# Altium integrated library FPGA Generic.IntLib: 1651 symbols (part 10 of 20)
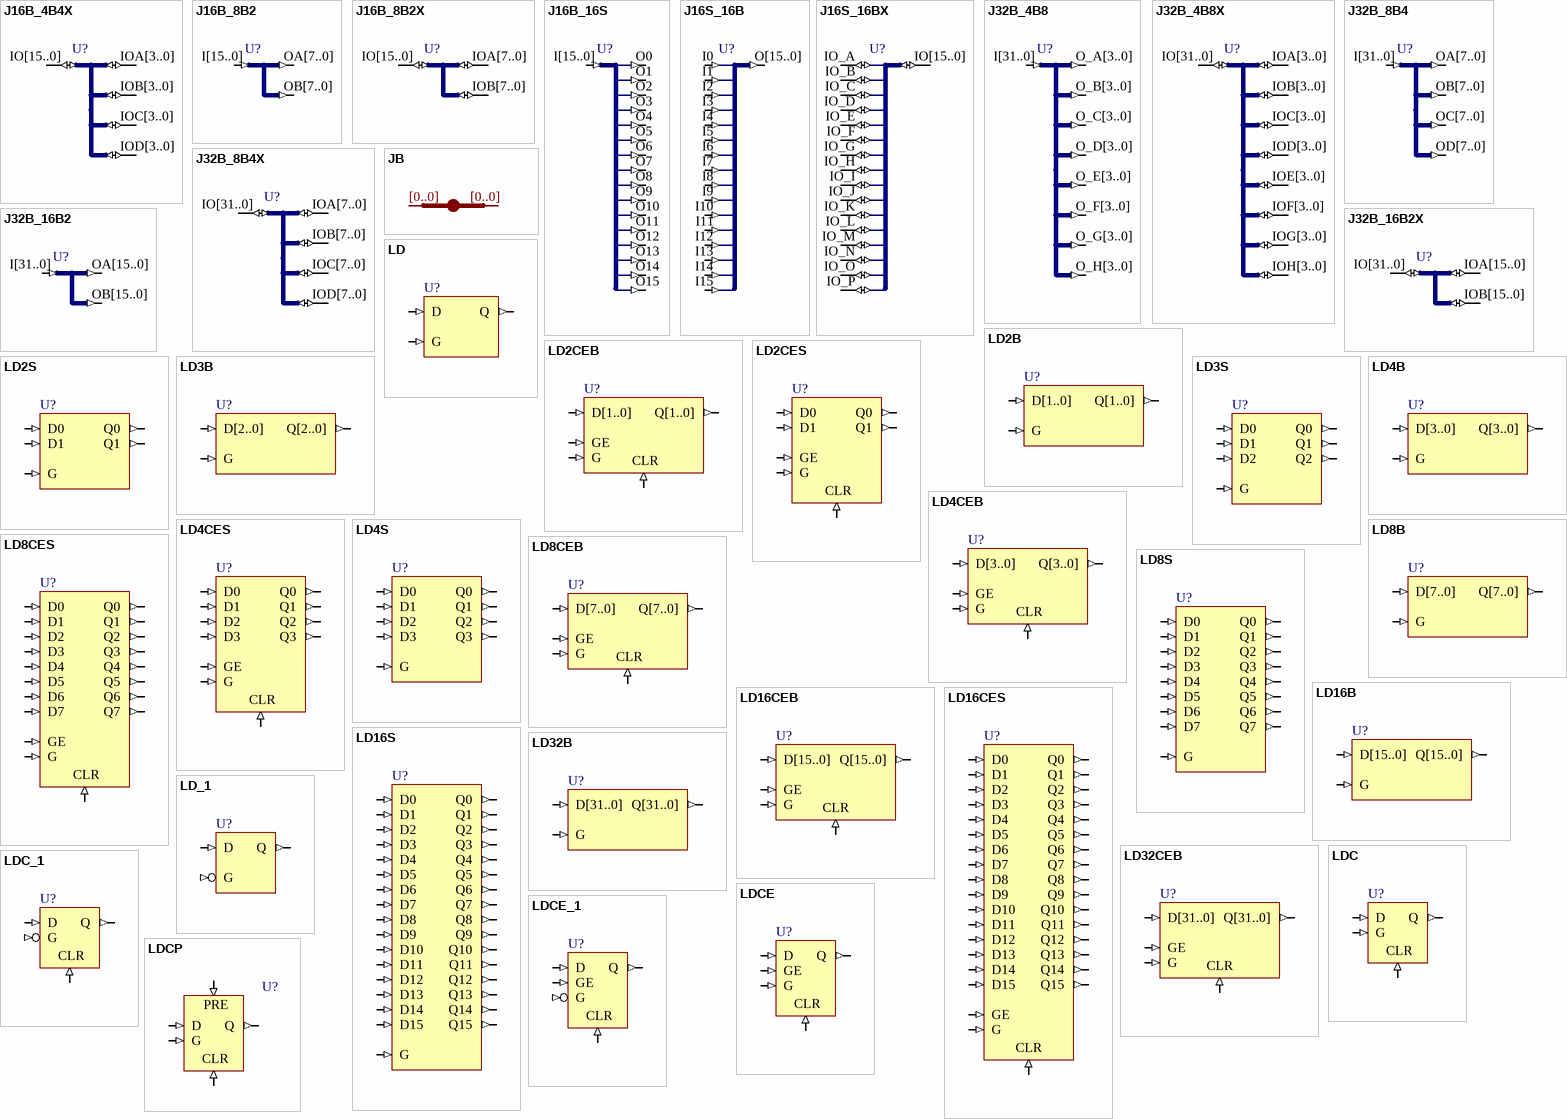
[diagram p52: symbols J16B_4B4X to LDCP]

## LD
designator U?
Transparent Data Latch; XilinxEquivalent: LD; ArchiveName: GENERIC; VHDLIB_SIM: GENERIC_LIB; Published: 29-Jan-2004; Publisher: Altium Limited; LastRevisionNo: 1.00.00; HelpURL: CR0118 FPGA Generic Library Guide.pdf#page=310; ComponentLink1URL: CR0135 FPGA Latch Resource Usage.pdf#page=2; ComponentLink1Description: Core &Resource Usage; FunctionalClass: Latch
pins: D (in), G (in), Q (out)

## LD2B
designator U?
2-Bit Transparent Data Latch, Bus Version; PortSize: 2; ArchiveName: GENERIC; VHDLIB_SIM: GENERIC_LIB; Published: 29-Jan-2004; Publisher: Altium Limited; LastRevisionNo: 1.00.00; HelpURL: CR0118 FPGA Generic Library Guide.pdf#page=310; ComponentLink1URL: CR0135 FPGA Latch Resource Usage.pdf#page=3; ComponentLink1Description: Core &Resource Usage; FunctionalClass: Latch; PortStyle: Bus Version
pins: D[1..0] (in), G (in), Q[1..0] (out)

## LD2CEB
designator U?
2-Bit Transparent Data Latch with Asynchronous Clear and Gate Enable, Bus Version; Enable: High; PortSize: 2; ArchiveName: GENERIC; VHDLIB_SIM: GENERIC_LIB; Published: 31-May-2004; Publisher: Altium Limited; LastRevisionNo: 1.00.00; HelpURL: CR0118 FPGA Generic Library Guide.pdf#page=315; ComponentLink1URL: CR0135 FPGA Latch Resource Usage.pdf#page=4; ComponentLink1Description: Core &Resource Usage; FunctionalClass: Latch; PortStyle: Bus Version
pins: CLR (in), D[1..0] (in), G (in), GE (in), Q[1..0] (out)

## LD2CES
designator U?
2-Bit Transparent Data Latch with Asynchronous Clear and Gate Enable, Single Pin Version; Enable: High; PortSize: 2; ArchiveName: GENERIC; VHDLIB_SIM: GENERIC_LIB; Published: 31-May-2004; Publisher: Altium Limited; LastRevisionNo: 1.00.00; HelpURL: CR0118 FPGA Generic Library Guide.pdf#page=315; ComponentLink1URL: CR0135 FPGA Latch Resource Usage.pdf#page=5; ComponentLink1Description: Core &Resource Usage; FunctionalClass: Latch; PortStyle: Single Pin Version
pins: CLR (in), D0 (in), D1 (in), G (in), GE (in), Q0 (out), Q1 (out)

## LD2S
designator U?
2-Bit Transparent Data Latch, Single Pin Version; PortSize: 2; ArchiveName: GENERIC; VHDLIB_SIM: GENERIC_LIB; Published: 29-Jan-2004; Publisher: Altium Limited; LastRevisionNo: 1.00.00; HelpURL: CR0118 FPGA Generic Library Guide.pdf#page=310; ComponentLink1URL: CR0135 FPGA Latch Resource Usage.pdf#page=6; ComponentLink1Description: Core &Resource Usage; FunctionalClass: Latch; PortStyle: Single Pin Version
pins: D0 (in), D1 (in), G (in), Q0 (out), Q1 (out)

## LD3B
designator U?
3-Bit Transparent Data Latch, Bus Version; PortSize: 3; ArchiveName: GENERIC; VHDLIB_SIM: GENERIC_LIB; Published: 29-Jan-2004; Publisher: Altium Limited; LastRevisionNo: 1.00.00; HelpURL: CR0118 FPGA Generic Library Guide.pdf#page=310; ComponentLink1URL: CR0135 FPGA Latch Resource Usage.pdf#page=7; ComponentLink1Description: Core &Resource Usage; FunctionalClass: Latch; PortStyle: Bus Version
pins: D[2..0] (in), G (in), Q[2..0] (out)

## LD3S
designator U?
3-Bit Transparent Data Latch, Single Pin Version; PortSize: 3; ArchiveName: GENERIC; VHDLIB_SIM: GENERIC_LIB; Published: 29-Jan-2004; Publisher: Altium Limited; LastRevisionNo: 1.00.00; HelpURL: CR0118 FPGA Generic Library Guide.pdf#page=310; ComponentLink1URL: CR0135 FPGA Latch Resource Usage.pdf#page=8; ComponentLink1Description: Core &Resource Usage; FunctionalClass: Latch; PortStyle: Single Pin Version
pins: D0 (in), D1 (in), D2 (in), G (in), Q0 (out), Q1 (out), Q2 (out)

## LD4B
designator U?
4-Bit Transparent Data Latch, Bus Version; PortSize: 4; ArchiveName: GENERIC; VHDLIB_SIM: GENERIC_LIB; Published: 29-Jan-2004; Publisher: Altium Limited; LastRevisionNo: 1.00.00; HelpURL: CR0118 FPGA Generic Library Guide.pdf#page=310; ComponentLink1URL: CR0135 FPGA Latch Resource Usage.pdf#page=9; ComponentLink1Description: Core &Resource Usage; FunctionalClass: Latch; PortStyle: Bus Version
pins: D[3..0] (in), G (in), Q[3..0] (out)

## LD4CEB
designator U?
4-Bit Transparent Data Latch with Asynchronous Clear and Gate Enable, Bus Version; Enable: High; PortSize: 4; ArchiveName: GENERIC; VHDLIB_SIM: GENERIC_LIB; Published: 29-Jan-2004; Publisher: Altium Limited; LastRevisionNo: 1.00.00; HelpURL: CR0118 FPGA Generic Library Guide.pdf#page=315; ComponentLink1URL: CR0135 FPGA Latch Resource Usage.pdf#page=10; ComponentLink1Description: Core &Resource Usage; FunctionalClass: Latch; PortStyle: Bus Version
pins: CLR (in), D[3..0] (in), G (in), GE (in), Q[3..0] (out)

## LD4CES
designator U?
4-Bit Transparent Data Latch with Asynchronous Clear and Gate Enable, Single Pin Version; XilinxEquivalent: LD4CE; Enable: High; PortSize: 4; ArchiveName: GENERIC; VHDLIB_SIM: GENERIC_LIB; Published: 29-Jan-2004; Publisher: Altium Limited; LastRevisionNo: 1.00.00; HelpURL: CR0118 FPGA Generic Library Guide.pdf#page=315; ComponentLink1URL: CR0135 FPGA Latch Resource Usage.pdf#page=11; ComponentLink1Description: Core &Resource Usage; FunctionalClass: Latch; PortStyle: Single Pin Version
pins: CLR (in), D0 (in), D1 (in), D2 (in), D3 (in), G (in), GE (in), Q0 (out), Q1 (out), Q2 (out), Q3 (out)

## LD4S
designator U?
4-Bit Transparent Data Latch, Single Pin Version; XilinxEquivalent: LD4; PortSize: 4; ArchiveName: GENERIC; VHDLIB_SIM: GENERIC_LIB; Published: 29-Jan-2004; Publisher: Altium Limited; LastRevisionNo: 1.00.00; HelpURL: CR0118 FPGA Generic Library Guide.pdf#page=310; ComponentLink1URL: CR0135 FPGA Latch Resource Usage.pdf#page=12; ComponentLink1Description: Core &Resource Usage; FunctionalClass: Latch; PortStyle: Single Pin Version
pins: D0 (in), D1 (in), D2 (in), D3 (in), G (in), Q0 (out), Q1 (out), Q2 (out), Q3 (out)

## LD8B
designator U?
8-Bit Transparent Data Latch, Bus Version; XilinxEquivalent: LD8; PortSize: 8; ArchiveName: GENERIC; VHDLIB_SIM: GENERIC_LIB; Published: 29-Jan-2004; Publisher: Altium Limited; LastRevisionNo: 1.00.00; HelpURL: CR0118 FPGA Generic Library Guide.pdf#page=310; ComponentLink1URL: CR0135 FPGA Latch Resource Usage.pdf#page=13; ComponentLink1Description: Core &Resource Usage; FunctionalClass: Latch; PortStyle: Bus Version
pins: D[7..0] (in), G (in), Q[7..0] (out)

## LD8CEB
designator U?
8-Bit Transparent Data Latch with Asynchronous Clear and Gate Enable, Bus Version; XilinxEquivalent: LD8CE; Enable: High; PortSize: 8; ArchiveName: GENERIC; VHDLIB_SIM: GENERIC_LIB; Published: 29-Jan-2004; Publisher: Altium Limited; LastRevisionNo: 1.00.00; HelpURL: CR0118 FPGA Generic Library Guide.pdf#page=315; ComponentLink1URL: CR0135 FPGA Latch Resource Usage.pdf#page=14; ComponentLink1Description: Core &Resource Usage; FunctionalClass: Latch; PortStyle: Bus Version
pins: CLR (in), D[7..0] (in), G (in), GE (in), Q[7..0] (out)

## LD8CES
designator U?
8-Bit Transparent Data Latch with Asynchronous Clear and Gate Enable, Single Pin Version; Enable: High; PortSize: 8; ArchiveName: GENERIC; VHDLIB_SIM: GENERIC_LIB; Published: 29-Jan-2004; Publisher: Altium Limited; LastRevisionNo: 1.00.00; HelpURL: CR0118 FPGA Generic Library Guide.pdf#page=315; ComponentLink1URL: CR0135 FPGA Latch Resource Usage.pdf#page=15; ComponentLink1Description: Core &Resource Usage; FunctionalClass: Latch; PortStyle: Single Pin Version
pins: CLR (in), D0 (in), D1 (in), D2 (in), D3 (in), D4 (in), D5 (in), D6 (in), D7 (in), G (in), GE (in), Q0 (out), Q1 (out), Q2 (out), Q3 (out), Q4 (out), Q5 (out), Q6 (out), Q7 (out)

## LD8S
designator U?
8-Bit Transparent Data Latch, Single Pin Version; PortSize: 8; ArchiveName: GENERIC; VHDLIB_SIM: GENERIC_LIB; Published: 29-Jan-2004; Publisher: Altium Limited; LastRevisionNo: 1.00.00; HelpURL: CR0118 FPGA Generic Library Guide.pdf#page=310; ComponentLink1URL: CR0135 FPGA Latch Resource Usage.pdf#page=16; ComponentLink1Description: Core &Resource Usage; FunctionalClass: Latch; PortStyle: Single Pin Version
pins: D0 (in), D1 (in), D2 (in), D3 (in), D4 (in), D5 (in), D6 (in), D7 (in), G (in), Q0 (out), Q1 (out), Q2 (out), Q3 (out), Q4 (out), Q5 (out), Q6 (out), Q7 (out)

## LD16B
designator U?
16-Bit Transparent Data Latch, Bus Version; XilinxEquivalent: LD16; PortSize: 16; ArchiveName: GENERIC; VHDLIB_SIM: GENERIC_LIB; Published: 29-Jan-2004; Publisher: Altium Limited; LastRevisionNo: 1.00.00; HelpURL: CR0118 FPGA Generic Library Guide.pdf#page=310; ComponentLink1URL: CR0135 FPGA Latch Resource Usage.pdf#page=17; ComponentLink1Description: Core &Resource Usage; FunctionalClass: Latch; PortStyle: Bus Version
pins: D[15..0] (in), G (in), Q[15..0] (out)

## LD16CEB
designator U?
16-Bit Transparent Data Latch with Asynchronous Clear and Gate Enable, Bus Version; XilinxEquivalent: LD16CE; Enable: High; PortSize: 16; ArchiveName: GENERIC; VHDLIB_SIM: GENERIC_LIB; Published: 29-Jan-2004; Publisher: Altium Limited; LastRevisionNo: 1.00.00; HelpURL: CR0118 FPGA Generic Library Guide.pdf#page=315; ComponentLink1URL: CR0135 FPGA Latch Resource Usage.pdf#page=18; ComponentLink1Description: Core &Resource Usage; FunctionalClass: Latch; PortStyle: Bus Version
pins: CLR (in), D[15..0] (in), G (in), GE (in), Q[15..0] (out)

## LD16CES
designator U?
16-Bit Transparent Data Latch with Asynchronous Clear and Gate Enable, Single Pin Version; Enable: High; PortSize: 16; ArchiveName: GENERIC; VHDLIB_SIM: GENERIC_LIB; Published: 29-Jan-2004; Publisher: Altium Limited; LastRevisionNo: 1.00.00; HelpURL: CR0118 FPGA Generic Library Guide.pdf#page=315; ComponentLink1URL: CR0135 FPGA Latch Resource Usage.pdf#page=19; ComponentLink1Description: Core &Resource Usage; FunctionalClass: Latch; PortStyle: Single Pin Version
pins: CLR (in), D0 (in), D1 (in), D2 (in), D3 (in), D4 (in), D5 (in), D6 (in), D7 (in), D8 (in), D9 (in), D10 (in), D11 (in), D12 (in), D13 (in), D14 (in), D15 (in), G (in), GE (in), Q0 (out), Q1 (out), Q2 (out), Q3 (out), Q4 (out), Q5 (out), Q6 (out), Q7 (out), Q8 (out), Q9 (out), Q10 (out), Q11 (out), Q12 (out), Q13 (out), Q14 (out), Q15 (out)

## LD16S
designator U?
16-Bit Transparent Data Latch, Single Pin Version; PortSize: 16; ArchiveName: GENERIC; VHDLIB_SIM: GENERIC_LIB; Published: 29-Jan-2004; Publisher: Altium Limited; LastRevisionNo: 1.00.00; HelpURL: CR0118 FPGA Generic Library Guide.pdf#page=310; ComponentLink1URL: CR0135 FPGA Latch Resource Usage.pdf#page=20; ComponentLink1Description: Core &Resource Usage; FunctionalClass: Latch; PortStyle: Single Pin Version
pins: D0 (in), D1 (in), D2 (in), D3 (in), D4 (in), D5 (in), D6 (in), D7 (in), D8 (in), D9 (in), D10 (in), D11 (in), D12 (in), D13 (in), D14 (in), D15 (in), G (in), Q0 (out), Q1 (out), Q2 (out), Q3 (out), Q4 (out), Q5 (out), Q6 (out), Q7 (out), Q8 (out), Q9 (out), Q10 (out), Q11 (out), Q12 (out), Q13 (out), Q14 (out), Q15 (out)

## LD32B
designator U?
32-Bit Transparent Data Latch, Bus Version; PortSize: 32; ArchiveName: GENERIC; VHDLIB_SIM: GENERIC_LIB; Published: 31-May-2004; Publisher: Altium Limited; LastRevisionNo: 1.00.00; HelpURL: CR0118 FPGA Generic Library Guide.pdf#page=310; ComponentLink1URL: CR0135 FPGA Latch Resource Usage.pdf#page=21; ComponentLink1Description: Core &Resource Usage; FunctionalClass: Latch; PortStyle: Bus Version
pins: D[31..0] (in), G (in), Q[31..0] (out)

## LD32CEB
designator U?
32-Bit Transparent Data Latch with Asynchronous Clear and Gate Enable, Bus Version; Enable: High; PortSize: 32; ArchiveName: GENERIC; VHDLIB_SIM: GENERIC_LIB; Published: 31-May-2004; Publisher: Altium Limited; LastRevisionNo: 1.00.00; HelpURL: CR0118 FPGA Generic Library Guide.pdf#page=315; ComponentLink1URL: CR0135 FPGA Latch Resource Usage.pdf#page=22; ComponentLink1Description: Core &Resource Usage; FunctionalClass: Latch; PortStyle: Bus Version
pins: CLR (in), D[31..0] (in), G (in), GE (in), Q[31..0] (out)

## LD_1
designator U?
Transparent Data Latch with Inverted Gate; XilinxEquivalent: LD_1; ArchiveName: GENERIC; VHDLIB_SIM: GENERIC_LIB; Published: 29-Jan-2004; Publisher: Altium Limited; LastRevisionNo: 1.00.00; HelpURL: CR0118 FPGA Generic Library Guide.pdf#page=312; ComponentLink1URL: CR0135 FPGA Latch Resource Usage.pdf#page=23; ComponentLink1Description: Core &Resource Usage; FunctionalClass: Latch; Gate: Inverted
pins: D (in), G (in), Q (out)

## LDC
designator U?
Transparent Data Latch with Asynchronous Clear; XilinxEquivalent: LDC; ArchiveName: GENERIC; VHDLIB_SIM: GENERIC_LIB; Published: 29-Jan-2004; Publisher: Altium Limited; LastRevisionNo: 1.00.00; HelpURL: CR0118 FPGA Generic Library Guide.pdf#page=313; ComponentLink1URL: CR0135 FPGA Latch Resource Usage.pdf#page=24; ComponentLink1Description: Core &Resource Usage; FunctionalClass: Latch
pins: CLR (in), D (in), G (in), Q (out)

## LDC_1
designator U?
Transparent Data Latch with Asynchronous Clear and Inverted Gate; XilinxEquivalent: LDC_1; ArchiveName: GENERIC; VHDLIB_SIM: GENERIC_LIB; Published: 29-Jan-2004; Publisher: Altium Limited; LastRevisionNo: 1.00.00; HelpURL: CR0118 FPGA Generic Library Guide.pdf#page=314; ComponentLink1URL: CR0135 FPGA Latch Resource Usage.pdf#page=25; ComponentLink1Description: Core &Resource Usage; FunctionalClass: Latch; Gate: Inverted
pins: CLR (in), D (in), G (in), Q (out)

## LDCE
designator U?
Transparent Data Latch with Asynchronous Clear and Gate Enable; XilinxEquivalent: LDCE; Enable: High; ArchiveName: GENERIC; VHDLIB_SIM: GENERIC_LIB; Published: 29-Jan-2004; Publisher: Altium Limited; LastRevisionNo: 1.00.00; HelpURL: CR0118 FPGA Generic Library Guide.pdf#page=315; ComponentLink1URL: CR0135 FPGA Latch Resource Usage.pdf#page=26; ComponentLink1Description: Core &Resource Usage; FunctionalClass: Latch
pins: CLR (in), D (in), G (in), GE (in), Q (out)

## LDCE_1
designator U?
Transparent Data Latch with Asynchronous Clear, Gate Enable,  and Inverted Gate; XilinxEquivalent: LDCE_1; Enable: High; ArchiveName: GENERIC; VHDLIB_SIM: GENERIC_LIB; Published: 29-Jan-2004; Publisher: Altium Limited; LastRevisionNo: 1.00.00; HelpURL: CR0118 FPGA Generic Library Guide.pdf#page=317; ComponentLink1URL: CR0135 FPGA Latch Resource Usage.pdf#page=27; ComponentLink1Description: Core &Resource Usage; FunctionalClass: Latch; Gate: Inverted
pins: CLR (in), D (in), G (in), GE (in), Q (out)

## LDCP
designator U?
Transparent Data Latch with Asynchronous Clear and Preset; XilinxEquivalent: LDCP; ArchiveName: GENERIC; VHDLIB_SIM: GENERIC_LIB; Published: 29-Jan-2004; Publisher: Altium Limited; LastRevisionNo: 1.00.00; HelpURL: CR0118 FPGA Generic Library Guide.pdf#page=318; ComponentLink1URL: CR0135 FPGA Latch Resource Usage.pdf#page=28; ComponentLink1Description: Core &Resource Usage; FunctionalClass: Latch
pins: CLR (in), D (in), G (in), PRE (in), Q (out)

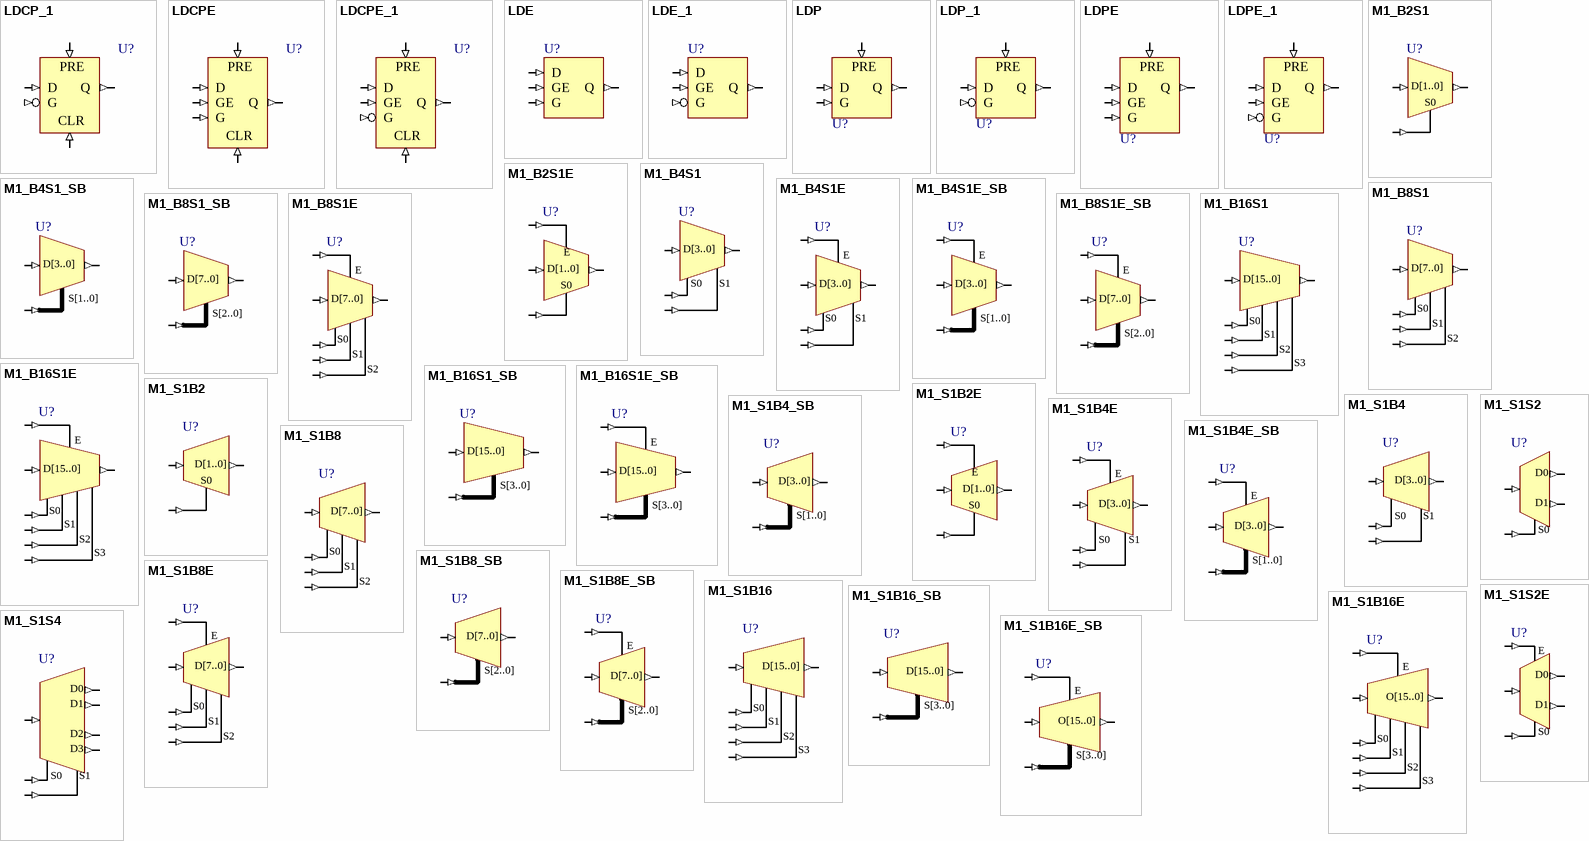
[diagram p20: symbols LDCP_1 to M1_S1S4]

## LDCP_1
designator U?
Transparent Data Latch with Asynchronous Clear and Preset and Inverted Gate; XilinxEquivalent: LDCP_1; ArchiveName: GENERIC; VHDLIB_SIM: GENERIC_LIB; Published: 29-Jan-2004; Publisher: Altium Limited; LastRevisionNo: 1.00.00; HelpURL: CR0118 FPGA Generic Library Guide.pdf#page=319; ComponentLink1URL: CR0135 FPGA Latch Resource Usage.pdf#page=29; ComponentLink1Description: Core &Resource Usage; FunctionalClass: Latch; Gate: Inverted
pins: CLR (in), D (in), G (in), PRE (in), Q (out)

## LDCPE
designator U?
Transparent Data Latch with Asynchronous Clear and Preset and Gate Enable; XilinxEquivalent: LDCPE; Enable: High; ArchiveName: GENERIC; VHDLIB_SIM: GENERIC_LIB; Published: 29-Jan-2004; Publisher: Altium Limited; LastRevisionNo: 1.00.00; HelpURL: CR0118 FPGA Generic Library Guide.pdf#page=320; ComponentLink1URL: CR0135 FPGA Latch Resource Usage.pdf#page=30; ComponentLink1Description: Core &Resource Usage; FunctionalClass: Latch
pins: CLR (in), D (in), G (in), GE (in), PRE (in), Q (out)

## LDCPE_1
designator U?
Transparent Data Latch with Asynchronous Clear and Preset, Gate Enable, and Inverted Gate; XilinxEquivalent: LDCPE_1; Enable: High; ArchiveName: GENERIC; VHDLIB_SIM: GENERIC_LIB; Published: 29-Jan-2004; Publisher: Altium Limited; LastRevisionNo: 1.00.00; HelpURL: CR0118 FPGA Generic Library Guide.pdf#page=321; ComponentLink1URL: CR0135 FPGA Latch Resource Usage.pdf#page=31; ComponentLink1Description: Core &Resource Usage; FunctionalClass: Latch; Gate: Inverted
pins: CLR (in), D (in), G (in), GE (in), PRE (in), Q (out)

## LDE
designator U?
Transparent Data Latch with Gate Enable; XilinxEquivalent: LDE; Enable: High; ArchiveName: GENERIC; VHDLIB_SIM: GENERIC_LIB; Published: 29-Jan-2004; Publisher: Altium Limited; LastRevisionNo: 1.00.00; HelpURL: CR0118 FPGA Generic Library Guide.pdf#page=322; ComponentLink1URL: CR0135 FPGA Latch Resource Usage.pdf#page=32; ComponentLink1Description: Core &Resource Usage; FunctionalClass: Latch
pins: D (in), G (in), GE (in), Q (out)

## LDE_1
designator U?
Transparent Data Latch with Gate Enable and Inverted Gate; XilinxEquivalent: LDE_1; Enable: High; ArchiveName: GENERIC; VHDLIB_SIM: GENERIC_LIB; Published: 29-Jan-2004; Publisher: Altium Limited; LastRevisionNo: 1.00.00; HelpURL: CR0118 FPGA Generic Library Guide.pdf#page=323; ComponentLink1URL: CR0135 FPGA Latch Resource Usage.pdf#page=33; ComponentLink1Description: Core &Resource Usage; FunctionalClass: Latch; Gate: Inverted
pins: D (in), G (in), GE (in), Q (out)

## LDP
designator U?
Transparent Data Latch with Asynchronous Preset; XilinxEquivalent: LDP; ArchiveName: GENERIC; VHDLIB_SIM: GENERIC_LIB; Published: 29-Jan-2004; Publisher: Altium Limited; LastRevisionNo: 1.00.00; HelpURL: CR0118 FPGA Generic Library Guide.pdf#page=324; ComponentLink1URL: CR0135 FPGA Latch Resource Usage.pdf#page=34; ComponentLink1Description: Core &Resource Usage; FunctionalClass: Latch
pins: D (in), G (in), PRE (in), Q (out)

## LDP_1
designator U?
Transparent Data Latch with Asynchronous Preset and Inverted Gate; XilinxEquivalent: LDP_1; ArchiveName: GENERIC; VHDLIB_SIM: GENERIC_LIB; Published: 29-Jan-2004; Publisher: Altium Limited; LastRevisionNo: 1.00.00; HelpURL: CR0118 FPGA Generic Library Guide.pdf#page=325; ComponentLink1URL: CR0135 FPGA Latch Resource Usage.pdf#page=35; ComponentLink1Description: Core &Resource Usage; FunctionalClass: Latch; Gate: Inverted
pins: D (in), G (in), PRE (in), Q (out)

## LDPE
designator U?
Transparent Data Latch with Asynchronous Preset and Gate Enable; XilinxEquivalent: LDPE; Enable: High; ArchiveName: GENERIC; VHDLIB_SIM: GENERIC_LIB; Published: 29-Jan-2004; Publisher: Altium Limited; LastRevisionNo: 1.00.00; HelpURL: CR0118 FPGA Generic Library Guide.pdf#page=326; ComponentLink1URL: CR0135 FPGA Latch Resource Usage.pdf#page=36; ComponentLink1Description: Core &Resource Usage; FunctionalClass: Latch
pins: D (in), G (in), GE (in), PRE (in), Q (out)

## LDPE_1
designator U?
Transparent Data Latch with Asynchronous Preset, Gate Enable, and Inverted Gate; XilinxEquivalent: LDPE_1; Enable: High; ArchiveName: GENERIC; VHDLIB_SIM: GENERIC_LIB; Published: 29-Jan-2004; Publisher: Altium Limited; LastRevisionNo: 1.00.00; HelpURL: CR0118 FPGA Generic Library Guide.pdf#page=327; ComponentLink1URL: CR0135 FPGA Latch Resource Usage.pdf#page=37; ComponentLink1Description: Core &Resource Usage; FunctionalClass: Latch; Gate: Inverted
pins: D (in), G (in), GE (in), PRE (in), Q (out)

## M1_B2S1
designator U?
1x2-Bit Bus to 1x1-Single Wire Multiplexer; SubClass: BnS1; PortSize: 1; PortStyle: Bus Version; ArchiveName: GENERIC; VHDLIB_SIM: GENERIC_LIB; Published: 29-Jan-2004; Publisher: Altium Limited; LastRevisionNo: 1.00.00; HelpURL: CR0118 FPGA Generic Library Guide.pdf#page=364; ComponentLink1URL: CR0137 FPGA Multiplexer Resource Usage.pdf#page=8; ComponentLink1Description: Core &Resource Usage; FunctionalClass: Multiplexer
pins: D[1..0] (in), O (out), S0 (in)

## M1_B2S1E
designator U?
1x2-Bit Bus to 1x1-Single Wire Multiplexer With Enable; SubClass: BnS1; Enable: High; PortSize: 1; PortStyle: Bus Version; ArchiveName: GENERIC; VHDLIB_SIM: GENERIC_LIB; Published: 29-Jan-2004; Publisher: Altium Limited; LastRevisionNo: 1.00.00; HelpURL: CR0118 FPGA Generic Library Guide.pdf#page=366; ComponentLink1URL: CR0137 FPGA Multiplexer Resource Usage.pdf#page=9; ComponentLink1Description: Core &Resource Usage; FunctionalClass: Multiplexer
pins: D[1..0] (in), E (in), O (out), S0 (in)

## M1_B4S1
designator U?
1x4-Bit Bus to 1x1-Single Wire Multiplexer; SubClass: BnS1; PortSize: 1; PortStyle: Bus Version; ArchiveName: GENERIC; VHDLIB_SIM: GENERIC_LIB; Published: 29-Jan-2004; Publisher: Altium Limited; LastRevisionNo: 1.00.00; HelpURL: CR0118 FPGA Generic Library Guide.pdf#page=370; ComponentLink1URL: CR0137 FPGA Multiplexer Resource Usage.pdf#page=10; ComponentLink1Description: Core &Resource Usage; FunctionalClass: Multiplexer
pins: D[3..0] (in), O (out), S0 (in), S1 (in)

## M1_B4S1_SB
designator U?
1x4-Bit Bus to 1x1-Single Wire Multiplexer With Bus Version Select; SubClass: BnS1; BusBusSelect: True; PortSize: 1; ArchiveName: GENERIC; VHDLIB_SIM: GENERIC_LIB; Published: 31-May-2004; Publisher: Altium Limited; LastRevisionNo: 1.00.00; HelpURL: CR0118 FPGA Generic Library Guide.pdf#page=370; ComponentLink1URL: CR0137 FPGA Multiplexer Resource Usage.pdf#page=11; ComponentLink1Description: Core &Resource Usage; FunctionalClass: Multiplexer; PortStyle: Bus Version
pins: D[3..0] (in), O (out), S[1..0] (in)

## M1_B4S1E
designator U?
1x4-Bit Bus to 1x1-Single Wire Multiplexer With Enable; SubClass: BnS1; Enable: High; PortSize: 1; PortStyle: Bus Version; ArchiveName: GENERIC; VHDLIB_SIM: GENERIC_LIB; Published: 29-Jan-2004; Publisher: Altium Limited; LastRevisionNo: 1.00.00; HelpURL: CR0118 FPGA Generic Library Guide.pdf#page=374; ComponentLink1URL: CR0137 FPGA Multiplexer Resource Usage.pdf#page=12; ComponentLink1Description: Core &Resource Usage; FunctionalClass: Multiplexer
pins: D[3..0] (in), E (in), O (out), S0 (in), S1 (in)

## M1_B4S1E_SB
designator U?
1x4-Bit Bus to 1x1-Single Wire Multiplexer With Enable With Bus Version Select; SubClass: BnS1; Enable: High; BusBusSelect: True; PortSize: 1; ArchiveName: GENERIC; VHDLIB_SIM: GENERIC_LIB; Published: 31-May-2004; Publisher: Altium Limited; LastRevisionNo: 1.00.00; HelpURL: CR0118 FPGA Generic Library Guide.pdf#page=374; ComponentLink1URL: CR0137 FPGA Multiplexer Resource Usage.pdf#page=13; ComponentLink1Description: Core &Resource Usage; FunctionalClass: Multiplexer; PortStyle: Bus Version
pins: D[3..0] (in), E (in), O (out), S[1..0] (in)

## M1_B8S1
designator U?
1x8-Bit Bus to 1x1-Single Wire Multiplexer; SubClass: BnS1; PortSize: 1; PortStyle: Bus Version; ArchiveName: GENERIC; VHDLIB_SIM: GENERIC_LIB; Published: 29-Jan-2004; Publisher: Altium Limited; LastRevisionNo: 1.00.00; HelpURL: CR0118 FPGA Generic Library Guide.pdf#page=379; ComponentLink1URL: CR0137 FPGA Multiplexer Resource Usage.pdf#page=14; ComponentLink1Description: Core &Resource Usage; FunctionalClass: Multiplexer
pins: D[7..0] (in), O (out), S0 (in), S1 (in), S2 (in)

## M1_B8S1_SB
designator U?
1x8-Bit Bus to 1x1-Single Wire Multiplexer With Bus Version Select; SubClass: BnS1; BusBusSelect: True; PortSize: 1; ArchiveName: GENERIC; VHDLIB_SIM: GENERIC_LIB; Published: 31-May-2004; Publisher: Altium Limited; LastRevisionNo: 1.00.00; HelpURL: CR0118 FPGA Generic Library Guide.pdf#page=379; ComponentLink1URL: CR0137 FPGA Multiplexer Resource Usage.pdf#page=15; ComponentLink1Description: Core &Resource Usage; FunctionalClass: Multiplexer; PortStyle: Bus Version
pins: D[7..0] (in), O (out), S[2..0] (in)

## M1_B8S1E
designator U?
1x8-Bit Bus to 1x1-Single Wire Multiplexer With Enable; SubClass: BnS1; Enable: High; PortSize: 1; PortStyle: Bus Version; ArchiveName: GENERIC; VHDLIB_SIM: GENERIC_LIB; Published: 29-Jan-2004; Publisher: Altium Limited; LastRevisionNo: 1.00.00; HelpURL: CR0118 FPGA Generic Library Guide.pdf#page=383; ComponentLink1URL: CR0137 FPGA Multiplexer Resource Usage.pdf#page=16; ComponentLink1Description: Core &Resource Usage; FunctionalClass: Multiplexer
pins: D[7..0] (in), E (in), O (out), S0 (in), S1 (in), S2 (in)

## M1_B8S1E_SB
designator U?
1x8-Bit Bus to 1x1-Single Wire Multiplexer With Enable With Bus Version Select; SubClass: BnS1; Enable: High; BusBusSelect: True; PortSize: 1; ArchiveName: GENERIC; VHDLIB_SIM: GENERIC_LIB; Published: 31-May-2004; Publisher: Altium Limited; LastRevisionNo: 1.00.00; HelpURL: CR0118 FPGA Generic Library Guide.pdf#page=383; ComponentLink1URL: CR0137 FPGA Multiplexer Resource Usage.pdf#page=17; ComponentLink1Description: Core &Resource Usage; FunctionalClass: Multiplexer; PortStyle: Bus Version
pins: D[7..0] (in), E (in), O (out), S[2..0] (in)

## M1_B16S1
designator U?
1x16-Bit Bus to 1x1-Single Wire Multiplexer; SubClass: BnS1; PortSize: 1; PortStyle: Bus Version; ArchiveName: GENERIC; VHDLIB_SIM: GENERIC_LIB; Published: 29-Jan-2004; Publisher: Altium Limited; LastRevisionNo: 1.00.00; HelpURL: CR0118 FPGA Generic Library Guide.pdf#page=388; ComponentLink1URL: CR0137 FPGA Multiplexer Resource Usage.pdf#page=18; ComponentLink1Description: Core &Resource Usage; FunctionalClass: Multiplexer
pins: D[15..0] (in), O (out), S0 (in), S1 (in), S2 (in), S3 (in)

## M1_B16S1_SB
designator U?
1x16-Bit Bus to 1x1-Single Wire Multiplexer With Bus Version Select; SubClass: BnS1; BusBusSelect: True; PortSize: 1; ArchiveName: GENERIC; VHDLIB_SIM: GENERIC_LIB; Published: 29-Jan-2004; Publisher: Altium Limited; LastRevisionNo: 1.00.00; HelpURL: CR0118 FPGA Generic Library Guide.pdf#page=388; ComponentLink1URL: CR0137 FPGA Multiplexer Resource Usage.pdf#page=19; ComponentLink1Description: Core &Resource Usage; FunctionalClass: Multiplexer; PortStyle: Bus Version
pins: D[15..0] (in), O (out), S[3..0] (in)

## M1_B16S1E
designator U?
1x16-Bit Bus to 1x1-Single Wire Multiplexer With Enable; SubClass: BnS1; Enable: High; PortSize: 1; PortStyle: Bus Version; ArchiveName: GENERIC; VHDLIB_SIM: GENERIC_LIB; Published: 29-Jan-2004; Publisher: Altium Limited; LastRevisionNo: 1.00.00; HelpURL: CR0118 FPGA Generic Library Guide.pdf#page=393; ComponentLink1URL: CR0137 FPGA Multiplexer Resource Usage.pdf#page=20; ComponentLink1Description: Core &Resource Usage; FunctionalClass: Multiplexer
pins: D[15..0] (in), E (in), O (out), S0 (in), S1 (in), S2 (in), S3 (in)

## M1_B16S1E_SB
designator U?
1x16-Bit Bus to 1x1-Single Wire Multiplexer With Enable and Bus Version Select; SubClass: BnS1; Enable: High; BusBusSelect: True; PortSize: 1; ArchiveName: GENERIC; VHDLIB_SIM: GENERIC_LIB; Published: 29-Jan-2004; Publisher: Altium Limited; LastRevisionNo: 1.00.00; HelpURL: CR0118 FPGA Generic Library Guide.pdf#page=393; ComponentLink1URL: CR0137 FPGA Multiplexer Resource Usage.pdf#page=21; ComponentLink1Description: Core &Resource Usage; FunctionalClass: Multiplexer; PortStyle: Bus Version
pins: D[15..0] (in), E (in), O (out), S[3..0] (in)

## M1_S1B2
designator U?
1x1-Single Wire to 1x2-Bit Bus Multiplexer (Demultiplex); SubClass: S1Bn; PortSize: 1; PortStyle: Bus Version; ArchiveName: GENERIC; VHDLIB_SIM: GENERIC_LIB; Published: 29-Jan-2004; Publisher: Altium Limited; LastRevisionNo: 1.00.00; HelpURL: CR0118 FPGA Generic Library Guide.pdf#page=328; ComponentLink1URL: CR0137 FPGA Multiplexer Resource Usage.pdf#page=22; ComponentLink1Description: Core &Resource Usage; FunctionalClass: Multiplexer
pins: D[1..0] (out), O (in), S0 (in)

## M1_S1B2E
designator U?
1x1-Single Wire to 1x2-Bit Bus Multiplexer (Demultiplex) With Enable; SubClass: S1Bn; Enable: High; PortSize: 1; PortStyle: Bus Version; ArchiveName: GENERIC; VHDLIB_SIM: GENERIC_LIB; Published: 29-Jan-2004; Publisher: Altium Limited; LastRevisionNo: 1.00.00; HelpURL: CR0118 FPGA Generic Library Guide.pdf#page=331; ComponentLink1URL: CR0137 FPGA Multiplexer Resource Usage.pdf#page=23; ComponentLink1Description: Core &Resource Usage; FunctionalClass: Multiplexer
pins: D[1..0] (out), E (in), O (in), S0 (in)

## M1_S1B4
designator U?
1x1-Single Wire to 1x4-Bit Bus Multiplexer (Demultiplex); SubClass: S1Bn; PortSize: 1; PortStyle: Bus Version; ArchiveName: GENERIC; VHDLIB_SIM: GENERIC_LIB; Published: 29-Jan-2004; Publisher: Altium Limited; LastRevisionNo: 1.00.00; HelpURL: CR0118 FPGA Generic Library Guide.pdf#page=335; ComponentLink1URL: CR0137 FPGA Multiplexer Resource Usage.pdf#page=24; ComponentLink1Description: Core &Resource Usage; FunctionalClass: Multiplexer
pins: D[3..0] (out), O (in), S0 (in), S1 (in)

## M1_S1B4_SB
designator U?
1x1-Single Wire to 1x4-Bit Bus Multiplexer (Demultiplex) With Bus Version Select; SubClass: S1Bn; BusBusSelect: True; PortSize: 1; ArchiveName: GENERIC; VHDLIB_SIM: GENERIC_LIB; Published: 31-May-2004; Publisher: Altium Limited; LastRevisionNo: 1.00.00; HelpURL: CR0118 FPGA Generic Library Guide.pdf#page=335; ComponentLink1URL: CR0137 FPGA Multiplexer Resource Usage.pdf#page=25; ComponentLink1Description: Core &Resource Usage; FunctionalClass: Multiplexer; PortStyle: Bus Version
pins: D[3..0] (out), O (in), S[1..0] (in)

## M1_S1B4E
designator U?
1x1-Single Wire to 1x4-Bit Bus Multiplexer (Demultiplex) With Enable; SubClass: S1Bn; Enable: High; PortSize: 1; PortStyle: Bus Version; ArchiveName: GENERIC; VHDLIB_SIM: GENERIC_LIB; Published: 29-Jan-2004; Publisher: Altium Limited; LastRevisionNo: 1.00.00; HelpURL: CR0118 FPGA Generic Library Guide.pdf#page=339; ComponentLink1URL: CR0137 FPGA Multiplexer Resource Usage.pdf#page=26; ComponentLink1Description: Core &Resource Usage; FunctionalClass: Multiplexer
pins: D[3..0] (out), E (in), O (in), S0 (in), S1 (in)

## M1_S1B4E_SB
designator U?
1x1-Single Wire to 1x4-Bit Bus Multiplexer (Demultiplex) With Enable With Bus Version Select; SubClass: S1Bn; Enable: High; BusBusSelect: True; PortSize: 1; ArchiveName: GENERIC; VHDLIB_SIM: GENERIC_LIB; Published: 31-May-2004; Publisher: Altium Limited; LastRevisionNo: 1.00.00; HelpURL: CR0118 FPGA Generic Library Guide.pdf#page=339; ComponentLink1URL: CR0137 FPGA Multiplexer Resource Usage.pdf#page=27; ComponentLink1Description: Core &Resource Usage; FunctionalClass: Multiplexer; PortStyle: Bus Version
pins: D[3..0] (out), E (in), O (in), S[1..0] (in)

## M1_S1B8
designator U?
1x1-Single Wire to 1x8-Bit Bus Multiplexer (Demultiplex); SubClass: S1Bn; PortSize: 1; PortStyle: Bus Version; ArchiveName: GENERIC; VHDLIB_SIM: GENERIC_LIB; Published: 29-Jan-2004; Publisher: Altium Limited; LastRevisionNo: 1.00.00; HelpURL: CR0118 FPGA Generic Library Guide.pdf#page=345; ComponentLink1URL: CR0137 FPGA Multiplexer Resource Usage.pdf#page=28; ComponentLink1Description: Core &Resource Usage; FunctionalClass: Multiplexer
pins: D[7..0] (out), O (in), S0 (in), S1 (in), S2 (in)

## M1_S1B8_SB
designator U?
1x1-Single Wire to 1x8-Bit Bus Multiplexer (Demultiplex) With Bus Version Select; SubClass: S1Bn; BusBusSelect: True; PortSize: 1; ArchiveName: GENERIC; VHDLIB_SIM: GENERIC_LIB; Published: 31-May-2004; Publisher: Altium Limited; LastRevisionNo: 1.00.00; HelpURL: CR0118 FPGA Generic Library Guide.pdf#page=345; ComponentLink1URL: CR0137 FPGA Multiplexer Resource Usage.pdf#page=29; ComponentLink1Description: Core &Resource Usage; FunctionalClass: Multiplexer; PortStyle: Bus Version
pins: D[7..0] (out), O (in), S[2..0] (in)

## M1_S1B8E
designator U?
1x1-Single Wire to 1x8-Bit Bus Multiplexer (Demultiplex) With Enable; SubClass: S1Bn; Enable: High; PortSize: 1; PortStyle: Bus Version; ArchiveName: GENERIC; VHDLIB_SIM: GENERIC_LIB; Published: 29-Jan-2004; Publisher: Altium Limited; LastRevisionNo: 1.00.00; HelpURL: CR0118 FPGA Generic Library Guide.pdf#page=350; ComponentLink1URL: CR0137 FPGA Multiplexer Resource Usage.pdf#page=30; ComponentLink1Description: Core &Resource Usage; FunctionalClass: Multiplexer
pins: D[7..0] (out), E (in), O (in), S0 (in), S1 (in), S2 (in)

## M1_S1B8E_SB
designator U?
1x1-Single Wire to 1x8-Bit Bus Multiplexer (Demultiplex) With Enable With Bus Version Select; SubClass: S1Bn; Enable: High; BusBusSelect: True; PortSize: 1; ArchiveName: GENERIC; VHDLIB_SIM: GENERIC_LIB; Published: 31-May-2004; Publisher: Altium Limited; LastRevisionNo: 1.00.00; HelpURL: CR0118 FPGA Generic Library Guide.pdf#page=350; ComponentLink1URL: CR0137 FPGA Multiplexer Resource Usage.pdf#page=31; ComponentLink1Description: Core &Resource Usage; FunctionalClass: Multiplexer; PortStyle: Bus Version
pins: D[7..0] (out), E (in), O (in), S[2..0] (in)

## M1_S1B16
designator U?
1x1-Single Wire to 1x16-Bit Bus Multiplexer (Demultiplex); SubClass: S1Bn; PortSize: 1; PortStyle: Bus Version; ArchiveName: GENERIC; VHDLIB_SIM: GENERIC_LIB; Published: 29-Jan-2004; Publisher: Altium Limited; LastRevisionNo: 1.00.00; HelpURL: CR0118 FPGA Generic Library Guide.pdf#page=355; ComponentLink1URL: CR0137 FPGA Multiplexer Resource Usage.pdf#page=32; ComponentLink1Description: Core &Resource Usage; FunctionalClass: Multiplexer
pins: D[15..0] (out), O (in), S0 (in), S1 (in), S2 (in), S3 (in)

## M1_S1B16_SB
designator U?
1x1-Single Wire to 1x16-Bit Bus Multiplexer (Demultiplex) With Bus Version Select; SubClass: S1Bn; BusBusSelect: True; PortSize: 1; ArchiveName: GENERIC; VHDLIB_SIM: GENERIC_LIB; Published: 29-Jan-2004; Publisher: Altium Limited; LastRevisionNo: 1.00.00; HelpURL: CR0118 FPGA Generic Library Guide.pdf#page=355; ComponentLink1URL: CR0137 FPGA Multiplexer Resource Usage.pdf#page=33; ComponentLink1Description: Core &Resource Usage; FunctionalClass: Multiplexer; PortStyle: Bus Version
pins: D[15..0] (out), O (in), S[3..0] (in)

## M1_S1B16E
designator U?
1x1-Single Wire to 1x16-Bit Bus Multiplexer (Demultiplex) With Enable; SubClass: S1Bn; Enable: High; PortSize: 1; PortStyle: Bus Version; ArchiveName: GENERIC; VHDLIB_SIM: GENERIC_LIB; Published: 29-Jan-2004; Publisher: Altium Limited; LastRevisionNo: 1.00.00; HelpURL: CR0118 FPGA Generic Library Guide.pdf#page=360; ComponentLink1URL: CR0137 FPGA Multiplexer Resource Usage.pdf#page=34; ComponentLink1Description: Core &Resource Usage; FunctionalClass: Multiplexer
pins: D[15..0] (out), E (in), O (in), S0 (in), S1 (in), S2 (in), S3 (in)
text: O[15..0]

## M1_S1B16E_SB
designator U?
1x1-Single Wire to 1x16-Bit Bus Multiplexer (Demultiplex) With Enable and Bus Version Select; SubClass: S1Bn; Enable: High; BusBusSelect: True; PortSize: 1; ArchiveName: GENERIC; VHDLIB_SIM: GENERIC_LIB; Published: 29-Jan-2004; Publisher: Altium Limited; LastRevisionNo: 1.00.00; HelpURL: CR0118 FPGA Generic Library Guide.pdf#page=360; ComponentLink1URL: CR0137 FPGA Multiplexer Resource Usage.pdf#page=35; ComponentLink1Description: Core &Resource Usage; FunctionalClass: Multiplexer; PortStyle: Bus Version
pins: D[15..0] (out), E (in), O (in), S[3..0] (in)
text: O[15..0]

## M1_S1S2
designator U?
1x1-Single Wire to 2x1-Single Wire Multiplexer (Demultiplex); SubClass: S1Sn; PortSize: 1; PortStyle: Single Pin Version; ArchiveName: GENERIC; VHDLIB_SIM: GENERIC_LIB; Published: 29-Jan-2004; Publisher: Altium Limited; LastRevisionNo: 1.00.00; HelpURL: CR0118 FPGA Generic Library Guide.pdf#page=328; ComponentLink1URL: CR0137 FPGA Multiplexer Resource Usage.pdf#page=36; ComponentLink1Description: Core &Resource Usage; FunctionalClass: Multiplexer
pins: D0 (out), D1 (out), O (in), S0 (in)

## M1_S1S2E
designator U?
1x1-Single Wire to 2x1-Single Wire Multiplexer (Demultiplex) With Enable; SubClass: S1Sn; Enable: High; PortSize: 1; PortStyle: Single Pin Version; ArchiveName: GENERIC; VHDLIB_SIM: GENERIC_LIB; Published: 29-Jan-2004; Publisher: Altium Limited; LastRevisionNo: 1.00.00; HelpURL: CR0118 FPGA Generic Library Guide.pdf#page=331; ComponentLink1URL: CR0137 FPGA Multiplexer Resource Usage.pdf#page=37; ComponentLink1Description: Core &Resource Usage; FunctionalClass: Multiplexer
pins: D0 (out), D1 (out), E (in), O (in), S0 (in)

## M1_S1S4
designator U?
1x1-Single Wire to 4x1-Single Wire Multiplexer (Demultiplex); SubClass: S1Sn; PortSize: 1; PortStyle: Single Pin Version; ArchiveName: GENERIC; VHDLIB_SIM: GENERIC_LIB; Published: 29-Jan-2004; Publisher: Altium Limited; LastRevisionNo: 1.00.00; HelpURL: CR0118 FPGA Generic Library Guide.pdf#page=335; ComponentLink1URL: CR0137 FPGA Multiplexer Resource Usage.pdf#page=38; ComponentLink1Description: Core &Resource Usage; FunctionalClass: Multiplexer
pins: D0 (out), D1 (out), D2 (out), D3 (out), O (in), S0 (in), S1 (in)

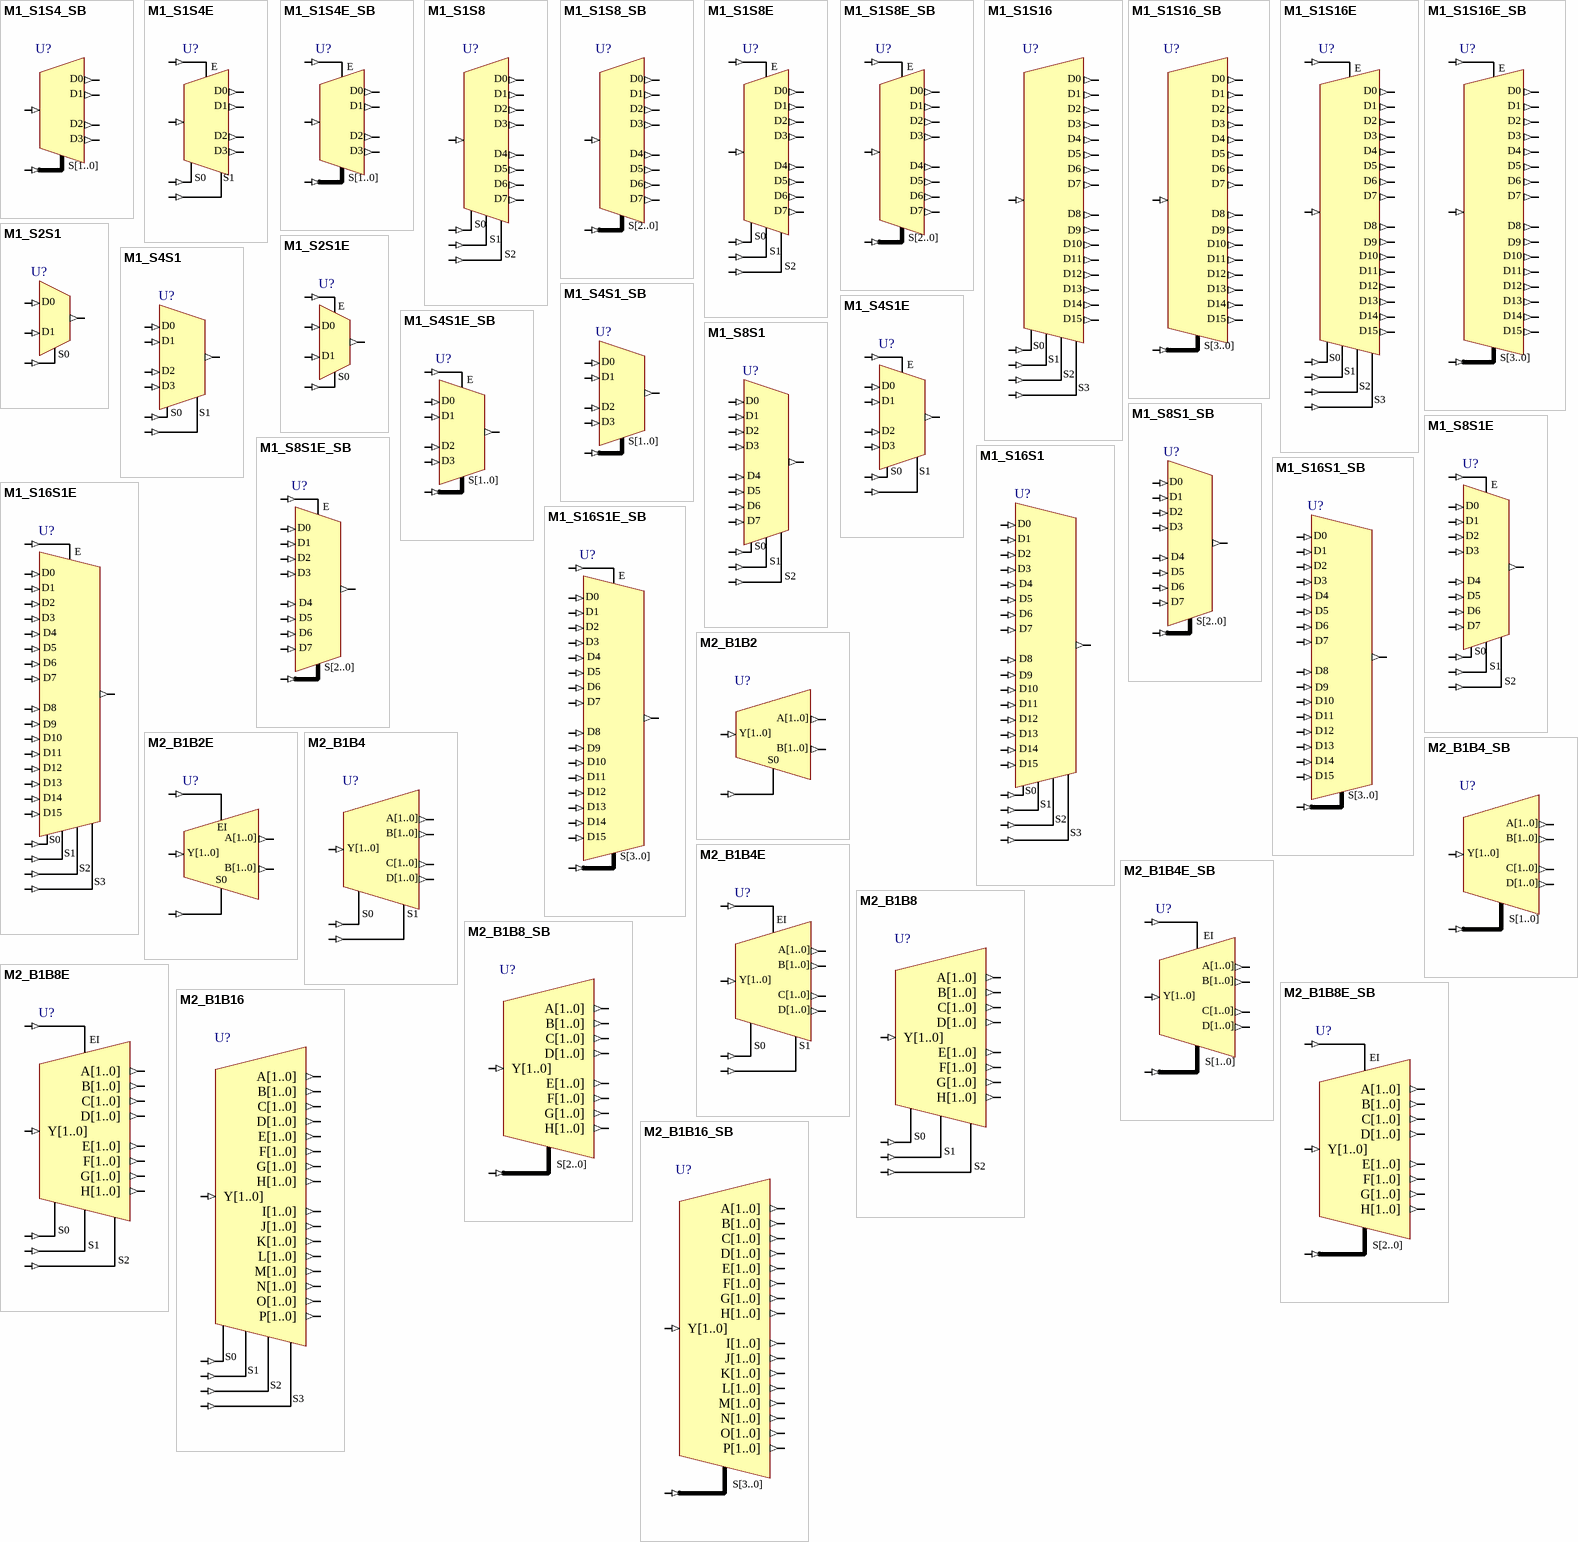
[diagram p21: symbols M1_S1S4_SB to M2_B1B16_SB]

## M1_S1S4_SB
designator U?
1x1-Single Wire to 4x1-Single Wire Multiplexer (Demultiplex) With Bus Version Select; SubClass: S1Sn; BusBusSelect: True; PortSize: 1; PortStyle: Single Pin Version; ArchiveName: GENERIC; VHDLIB_SIM: GENERIC_LIB; Published: 31-May-2004; Publisher: Altium Limited; LastRevisionNo: 1.00.00; HelpURL: CR0118 FPGA Generic Library Guide.pdf#page=335; ComponentLink1URL: CR0137 FPGA Multiplexer Resource Usage.pdf#page=39; ComponentLink1Description: Core &Resource Usage; FunctionalClass: Multiplexer
pins: D0 (out), D1 (out), D2 (out), D3 (out), O (in), S[1..0] (in)

## M1_S1S4E
designator U?
1x1-Single Wire to 4x1-Single Wire Multiplexer (Demultiplex) With Enable; SubClass: S1Sn; Enable: High; PortSize: 1; PortStyle: Single Pin Version; ArchiveName: GENERIC; VHDLIB_SIM: GENERIC_LIB; Published: 29-Jan-2004; Publisher: Altium Limited; LastRevisionNo: 1.00.00; HelpURL: CR0118 FPGA Generic Library Guide.pdf#page=339; ComponentLink1URL: CR0137 FPGA Multiplexer Resource Usage.pdf#page=40; ComponentLink1Description: Core &Resource Usage; FunctionalClass: Multiplexer
pins: D0 (out), D1 (out), D2 (out), D3 (out), E (in), O (in), S0 (in), S1 (in)

## M1_S1S4E_SB
designator U?
1x1-Single Wire to 4x1-Single Wire Multiplexer (Demultiplex) With Enable With Bus Version Select; SubClass: S1Sn; Enable: High; BusBusSelect: True; PortSize: 1; PortStyle: Single Pin Version; ArchiveName: GENERIC; VHDLIB_SIM: GENERIC_LIB; Published: 31-May-2004; Publisher: Altium Limited; LastRevisionNo: 1.00.00; HelpURL: CR0118 FPGA Generic Library Guide.pdf#page=339; ComponentLink1URL: CR0137 FPGA Multiplexer Resource Usage.pdf#page=41; ComponentLink1Description: Core &Resource Usage; FunctionalClass: Multiplexer
pins: D0 (out), D1 (out), D2 (out), D3 (out), E (in), O (in), S[1..0] (in)

## M1_S1S8
designator U?
1x1-Single Wire to 8x1-Single Wire Multiplexer (Demultiplex); SubClass: S1Sn; PortSize: 1; PortStyle: Single Pin Version; ArchiveName: GENERIC; VHDLIB_SIM: GENERIC_LIB; Published: 29-Jan-2004; Publisher: Altium Limited; LastRevisionNo: 1.00.00; HelpURL: CR0118 FPGA Generic Library Guide.pdf#page=345; ComponentLink1URL: CR0137 FPGA Multiplexer Resource Usage.pdf#page=42; ComponentLink1Description: Core &Resource Usage; FunctionalClass: Multiplexer
pins: D0 (out), D1 (out), D2 (out), D3 (out), D4 (out), D5 (out), D6 (out), D7 (out), O (in), S0 (in), S1 (in), S2 (in)

## M1_S1S8_SB
designator U?
1x1-Single Wire to 8x1-Single Wire Multiplexer (Demultiplex) With Bus Version Select; SubClass: S1Sn; BusBusSelect: True; PortSize: 1; PortStyle: Single Pin Version; ArchiveName: GENERIC; VHDLIB_SIM: GENERIC_LIB; Published: 31-May-2004; Publisher: Altium Limited; LastRevisionNo: 1.00.00; HelpURL: CR0118 FPGA Generic Library Guide.pdf#page=345; ComponentLink1URL: CR0137 FPGA Multiplexer Resource Usage.pdf#page=43; ComponentLink1Description: Core &Resource Usage; FunctionalClass: Multiplexer
pins: D0 (out), D1 (out), D2 (out), D3 (out), D4 (out), D5 (out), D6 (out), D7 (out), O (in), S[2..0] (in)

## M1_S1S8E
designator U?
1x1-Single Wire to 8x1-Single Wire Multiplexer (Demultiplex) With Enable; SubClass: S1Sn; Enable: High; PortSize: 1; PortStyle: Single Pin Version; ArchiveName: GENERIC; VHDLIB_SIM: GENERIC_LIB; Published: 29-Jan-2004; Publisher: Altium Limited; LastRevisionNo: 1.00.00; HelpURL: CR0118 FPGA Generic Library Guide.pdf#page=350; ComponentLink1URL: CR0137 FPGA Multiplexer Resource Usage.pdf#page=44; ComponentLink1Description: Core &Resource Usage; FunctionalClass: Multiplexer
pins: D0 (out), D1 (out), D2 (out), D3 (out), D4 (out), D5 (out), D6 (out), D7 (out), E (in), O (in), S0 (in), S1 (in), S2 (in)

## M1_S1S8E_SB
designator U?
1x1-Single Wire to 8x1-Single Wire Multiplexer (Demultiplex) With Enable With Bus Version Select; SubClass: S1Sn; Enable: High; BusBusSelect: True; PortSize: 1; PortStyle: Single Pin Version; ArchiveName: GENERIC; VHDLIB_SIM: GENERIC_LIB; Published: 31-May-2004; Publisher: Altium Limited; LastRevisionNo: 1.00.00; HelpURL: CR0118 FPGA Generic Library Guide.pdf#page=350; ComponentLink1URL: CR0137 FPGA Multiplexer Resource Usage.pdf#page=45; ComponentLink1Description: Core &Resource Usage; FunctionalClass: Multiplexer
pins: D0 (out), D1 (out), D2 (out), D3 (out), D4 (out), D5 (out), D6 (out), D7 (out), E (in), O (in), S[2..0] (in)

## M1_S1S16
designator U?
1x1-Single Wire to 16x1-Single Wire Multiplexer (Demultiplex); SubClass: S1Sn; PortSize: 1; PortStyle: Single Pin Version; ArchiveName: GENERIC; VHDLIB_SIM: GENERIC_LIB; Published: 29-Jan-2004; Publisher: Altium Limited; LastRevisionNo: 1.00.00; HelpURL: CR0118 FPGA Generic Library Guide.pdf#page=355; ComponentLink1URL: CR0137 FPGA Multiplexer Resource Usage.pdf#page=46; ComponentLink1Description: Core &Resource Usage; FunctionalClass: Multiplexer
pins: D0 (out), D1 (out), D2 (out), D3 (out), D4 (out), D5 (out), D6 (out), D7 (out), D8 (out), D9 (out), D10 (out), D11 (out), D12 (out), D13 (out), D14 (out), D15 (out), O (in), S0 (in), S1 (in), S2 (in), S3 (in)

## M1_S1S16_SB
designator U?
1x1-Single Wire to 16x1-Single Wire Multiplexer (Demultiplex) With Bus Version Select; SubClass: S1Sn; BusBusSelect: True; PortSize: 1; PortStyle: Single Pin Version; ArchiveName: GENERIC; VHDLIB_SIM: GENERIC_LIB; Published: 29-Jan-2004; Publisher: Altium Limited; LastRevisionNo: 1.00.00; HelpURL: CR0118 FPGA Generic Library Guide.pdf#page=355; ComponentLink1URL: CR0137 FPGA Multiplexer Resource Usage.pdf#page=47; ComponentLink1Description: Core &Resource Usage; FunctionalClass: Multiplexer
pins: D0 (out), D1 (out), D2 (out), D3 (out), D4 (out), D5 (out), D6 (out), D7 (out), D8 (out), D9 (out), D10 (out), D11 (out), D12 (out), D13 (out), D14 (out), D15 (out), O (in), S[3..0] (in)

## M1_S1S16E
designator U?
1x1-Single Wire to 16x1-Single Wire Multiplexer (Demultiplex) With Enable; SubClass: S1Sn; Enable: High; PortSize: 1; PortStyle: Single Pin Version; ArchiveName: GENERIC; VHDLIB_SIM: GENERIC_LIB; Published: 29-Jan-2004; Publisher: Altium Limited; LastRevisionNo: 1.00.00; HelpURL: CR0118 FPGA Generic Library Guide.pdf#page=360; ComponentLink1URL: CR0137 FPGA Multiplexer Resource Usage.pdf#page=48; ComponentLink1Description: Core &Resource Usage; FunctionalClass: Multiplexer
pins: D0 (out), D1 (out), D2 (out), D3 (out), D4 (out), D5 (out), D6 (out), D7 (out), D8 (out), D9 (out), D10 (out), D11 (out), D12 (out), D13 (out), D14 (out), D15 (out), E (in), O (in), S0 (in), S1 (in), S2 (in), S3 (in)

## M1_S1S16E_SB
designator U?
1x1-Single Wire to 16x1-Single Wire Multiplexer (Demultiplex) With Enable and Bus Version Select; SubClass: S1Sn; Enable: High; BusBusSelect: True; PortSize: 1; PortStyle: Single Pin Version; ArchiveName: GENERIC; VHDLIB_SIM: GENERIC_LIB; Published: 29-Jan-2004; Publisher: Altium Limited; LastRevisionNo: 1.00.00; HelpURL: CR0118 FPGA Generic Library Guide.pdf#page=360; ComponentLink1URL: CR0137 FPGA Multiplexer Resource Usage.pdf#page=49; ComponentLink1Description: Core &Resource Usage; FunctionalClass: Multiplexer
pins: D0 (out), D1 (out), D2 (out), D3 (out), D4 (out), D5 (out), D6 (out), D7 (out), D8 (out), D9 (out), D10 (out), D11 (out), D12 (out), D13 (out), D14 (out), D15 (out), E (in), O (in), S[3..0] (in)

## M1_S2S1
designator U?
2x1-Single Wire to 1x1-Single Wire Multiplexer; XilinxEquivalent: M2_1; SubClass: SnS1; PortSize: 1; PortStyle: Single Pin Version; ArchiveName: GENERIC; VHDLIB_SIM: GENERIC_LIB; Published: 29-Jan-2004; Publisher: Altium Limited; LastRevisionNo: 1.00.00; HelpURL: CR0118 FPGA Generic Library Guide.pdf#page=364; ComponentLink1URL: CR0137 FPGA Multiplexer Resource Usage.pdf#page=50; ComponentLink1Description: Core &Resource Usage; FunctionalClass: Multiplexer
pins: D0 (in), D1 (in), O (out), S0 (in)

## M1_S2S1E
designator U?
2x1-Single Wire to 1x1-Single Wire Multiplexer With Enable; XilinxEquivalent: M2_1E; SubClass: SnS1; Enable: High; PortSize: 1; PortStyle: Single Pin Version; ArchiveName: GENERIC; VHDLIB_SIM: GENERIC_LIB; Published: 29-Jan-2004; Publisher: Altium Limited; LastRevisionNo: 1.00.00; HelpURL: CR0118 FPGA Generic Library Guide.pdf#page=366; ComponentLink1URL: CR0137 FPGA Multiplexer Resource Usage.pdf#page=51; ComponentLink1Description: Core &Resource Usage; FunctionalClass: Multiplexer
pins: D0 (in), D1 (in), E (in), O (out), S0 (in)

## M1_S4S1
designator U?
4x1-Single Wire to 1x1-Single Wire Multiplexer; SubClass: SnS1; PortSize: 1; PortStyle: Single Pin Version; ArchiveName: GENERIC; VHDLIB_SIM: GENERIC_LIB; Published: 29-Jan-2004; Publisher: Altium Limited; LastRevisionNo: 1.00.00; HelpURL: CR0118 FPGA Generic Library Guide.pdf#page=370; ComponentLink1URL: CR0137 FPGA Multiplexer Resource Usage.pdf#page=52; ComponentLink1Description: Core &Resource Usage; FunctionalClass: Multiplexer
pins: D0 (in), D1 (in), D2 (in), D3 (in), O (out), S0 (in), S1 (in)

## M1_S4S1_SB
designator U?
4x1-Single Wire to 1x1-Single Wire Multiplexer With Bus Version Select; SubClass: SnS1; BusBusSelect: True; PortSize: 1; PortStyle: Single Pin Version; ArchiveName: GENERIC; VHDLIB_SIM: GENERIC_LIB; Published: 31-May-2004; Publisher: Altium Limited; LastRevisionNo: 1.00.00; HelpURL: CR0118 FPGA Generic Library Guide.pdf#page=370; ComponentLink1URL: CR0137 FPGA Multiplexer Resource Usage.pdf#page=53; ComponentLink1Description: Core &Resource Usage; FunctionalClass: Multiplexer
pins: D0 (in), D1 (in), D2 (in), D3 (in), O (out), S[1..0] (in)

## M1_S4S1E
designator U?
4x1-Single Wire to 1x1-Single Wire Multiplexer With Enable; XilinxEquivalent: M4_1E; SubClass: SnS1; Enable: High; PortSize: 1; PortStyle: Single Pin Version; ArchiveName: GENERIC; VHDLIB_SIM: GENERIC_LIB; Published: 29-Jan-2004; Publisher: Altium Limited; LastRevisionNo: 1.00.00; HelpURL: CR0118 FPGA Generic Library Guide.pdf#page=374; ComponentLink1URL: CR0137 FPGA Multiplexer Resource Usage.pdf#page=54; ComponentLink1Description: Core &Resource Usage; FunctionalClass: Multiplexer
pins: D0 (in), D1 (in), D2 (in), D3 (in), E (in), O (out), S0 (in), S1 (in)

## M1_S4S1E_SB
designator U?
4x1-Single Wire to 1x1-Single Wire Multiplexer With Enable With Bus Version Select; SubClass: SnS1; Enable: High; BusBusSelect: True; PortSize: 1; PortStyle: Single Pin Version; ArchiveName: GENERIC; VHDLIB_SIM: GENERIC_LIB; Published: 31-May-2004; Publisher: Altium Limited; LastRevisionNo: 1.00.00; HelpURL: CR0118 FPGA Generic Library Guide.pdf#page=374; ComponentLink1URL: CR0137 FPGA Multiplexer Resource Usage.pdf#page=55; ComponentLink1Description: Core &Resource Usage; FunctionalClass: Multiplexer
pins: D0 (in), D1 (in), D2 (in), D3 (in), E (in), O (out), S[1..0] (in)

## M1_S8S1
designator U?
8x1-Single Wire to 1x1-Single Wire Multiplexer; SubClass: SnS1; PortSize: 1; PortStyle: Single Pin Version; ArchiveName: GENERIC; VHDLIB_SIM: GENERIC_LIB; Published: 29-Jan-2004; Publisher: Altium Limited; LastRevisionNo: 1.00.00; HelpURL: CR0118 FPGA Generic Library Guide.pdf#page=379; ComponentLink1URL: CR0137 FPGA Multiplexer Resource Usage.pdf#page=56; ComponentLink1Description: Core &Resource Usage; FunctionalClass: Multiplexer
pins: D0 (in), D1 (in), D2 (in), D3 (in), D4 (in), D5 (in), D6 (in), D7 (in), O (out), S0 (in), S1 (in), S2 (in)

## M1_S8S1_SB
designator U?
8x1-Single Wire to 1x1-Single Wire Multiplexer With Bus Version Select; SubClass: SnS1; BusBusSelect: True; PortSize: 1; PortStyle: Single Pin Version; ArchiveName: GENERIC; VHDLIB_SIM: GENERIC_LIB; Published: 31-May-2004; Publisher: Altium Limited; LastRevisionNo: 1.00.00; HelpURL: CR0118 FPGA Generic Library Guide.pdf#page=379; ComponentLink1URL: CR0137 FPGA Multiplexer Resource Usage.pdf#page=57; ComponentLink1Description: Core &Resource Usage; FunctionalClass: Multiplexer
pins: D0 (in), D1 (in), D2 (in), D3 (in), D4 (in), D5 (in), D6 (in), D7 (in), O (out), S[2..0] (in)

## M1_S8S1E
designator U?
8x1-Single Wire to 1x1-Single Wire Multiplexer With Enable; XilinxEquivalent: M8_1E; SubClass: SnS1; Enable: High; PortSize: 1; PortStyle: Single Pin Version; ArchiveName: GENERIC; VHDLIB_SIM: GENERIC_LIB; Published: 29-Jan-2004; Publisher: Altium Limited; LastRevisionNo: 1.00.00; HelpURL: CR0118 FPGA Generic Library Guide.pdf#page=383; ComponentLink1URL: CR0137 FPGA Multiplexer Resource Usage.pdf#page=58; ComponentLink1Description: Core &Resource Usage; FunctionalClass: Multiplexer
pins: D0 (in), D1 (in), D2 (in), D3 (in), D4 (in), D5 (in), D6 (in), D7 (in), E (in), O (out), S0 (in), S1 (in), S2 (in)

## M1_S8S1E_SB
designator U?
8x1-Single Wire to 1x1-Single Wire Multiplexer With Enable With Bus Version Select; SubClass: SnS1; Enable: High; BusBusSelect: True; PortSize: 1; PortStyle: Single Pin Version; ArchiveName: GENERIC; VHDLIB_SIM: GENERIC_LIB; Published: 31-May-2004; Publisher: Altium Limited; LastRevisionNo: 1.00.00; HelpURL: CR0118 FPGA Generic Library Guide.pdf#page=383; ComponentLink1URL: CR0137 FPGA Multiplexer Resource Usage.pdf#page=59; ComponentLink1Description: Core &Resource Usage; FunctionalClass: Multiplexer
pins: D0 (in), D1 (in), D2 (in), D3 (in), D4 (in), D5 (in), D6 (in), D7 (in), E (in), O (out), S[2..0] (in)

## M1_S16S1
designator U?
16x1-Single Wire to 1x1-Single Wire Multiplexer; SubClass: SnS1; PortSize: 1; PortStyle: Single Pin Version; ArchiveName: GENERIC; VHDLIB_SIM: GENERIC_LIB; Published: 29-Jan-2004; Publisher: Altium Limited; LastRevisionNo: 1.00.00; HelpURL: CR0118 FPGA Generic Library Guide.pdf#page=388; ComponentLink1URL: CR0137 FPGA Multiplexer Resource Usage.pdf#page=60; ComponentLink1Description: Core &Resource Usage; FunctionalClass: Multiplexer
pins: D0 (in), D1 (in), D2 (in), D3 (in), D4 (in), D5 (in), D6 (in), D7 (in), D8 (in), D9 (in), D10 (in), D11 (in), D12 (in), D13 (in), D14 (in), D15 (in), O (out), S0 (in), S1 (in), S2 (in), S3 (in)